# EAGLE library part AD725 (library IC)
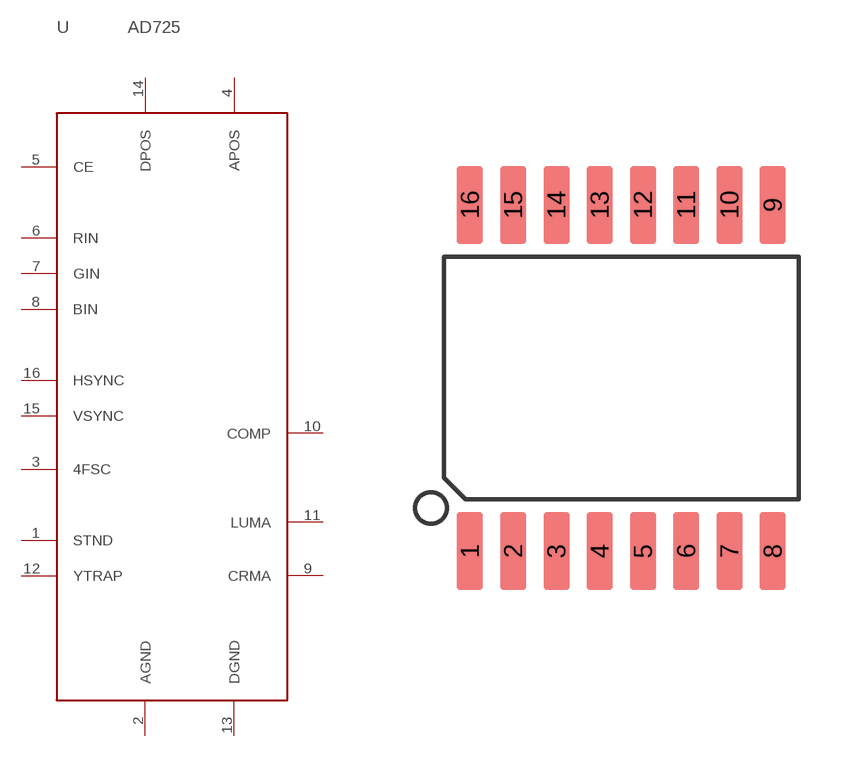
[diagram p6: symbol with the pads of SO16-W; footprint SO16-W]

Designator prefix U

## AD725-SO16  [SO16-W]
1  STND
2  AGND
3  4FSC
4  APOS
5  CE
6  RIN
7  GIN
8  BIN
9  CRMA
10  COMP
11  LUMA
12  YTRAP
13  DGND
14  DPOS
15  VSYNC
16  HSYNC

## Footprint SO16-W (pad centres in mm)
SMALL OUTLINE J LEADS body 7.63 mm
smd 0.762 x 2.286: 1 -4.445,-5.08; 2 -3.175,-5.08; 3 -1.905,-5.08; 4 -0.635,-5.08; 5 0.635,-5.08; 6 1.905,-5.08; 7 3.175,-5.08; 8 4.445,-5.08; 9 4.445,5.08; 10 3.175,5.08; 11 1.905,5.08; 12 0.635,5.08; 13 -0.635,5.08; 14 -1.905,5.08; 15 -3.175,5.08; 16 -4.445,5.08